# Altium footprint library Passive.PcbLib: 41 footprints (part 3 of 3)
Each footprint in its own frame and in the unit in brackets; x right, y up, seen from the top. Pads: shape width x height; smd on the part's side, far side on the other; paste and mask are expansions set on the pad; w line width, h text height; cw(c..) or ccw(c..) is an arc to the next point about the centre after c.
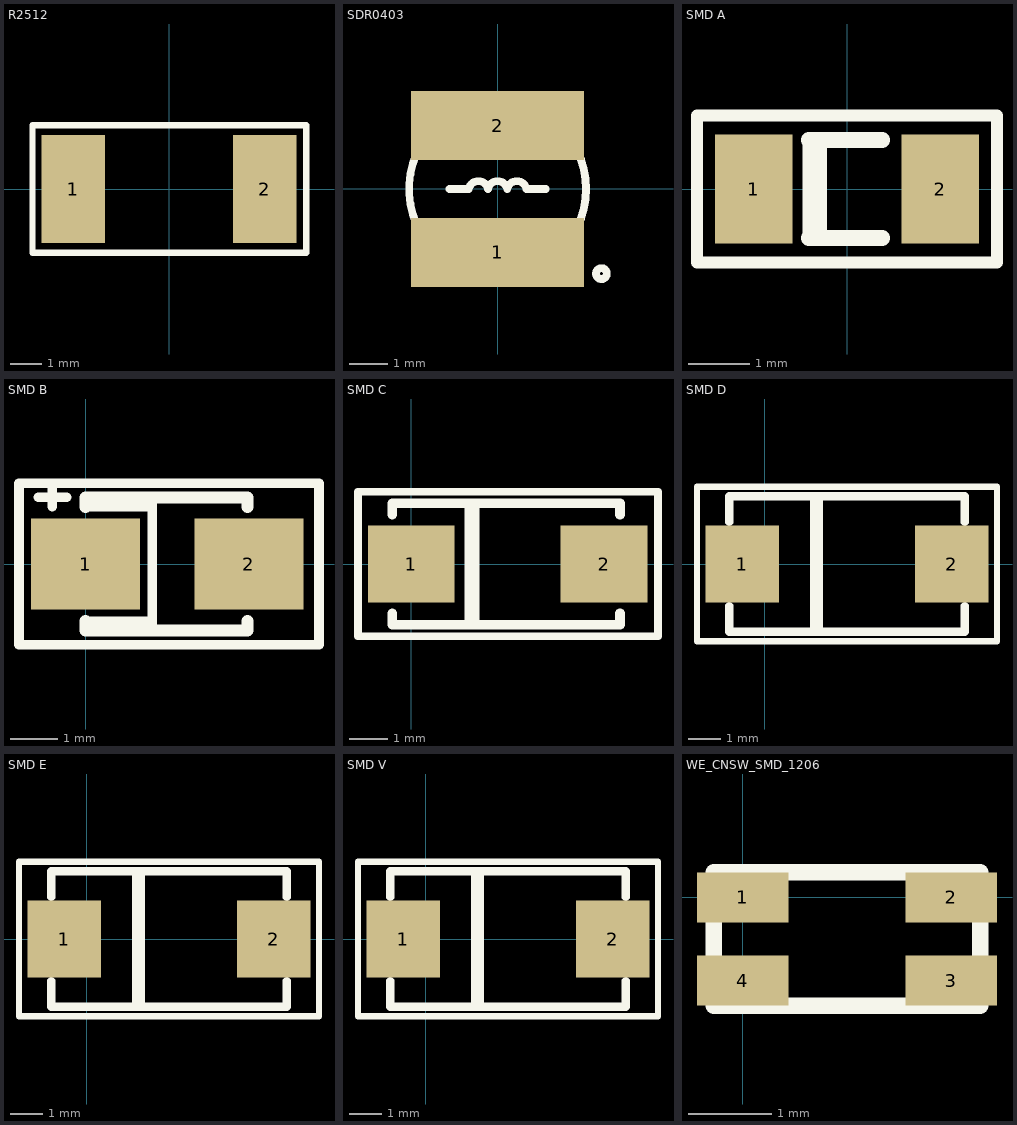
[diagram p2: the footprints below, top view; thin cyan lines are the x and y axes]

## R2512 [mm]
pads (2):
  rect 2x3.4 smd: 1(-3.025,0) 2(3,0)
Top Overlay:
  lines w0.2: -4.3,-2 -4.3,2 4.3,2 4.3,-2 -4.3,-2
3D body "User Library-Resistors2512.STEP": height 0.61, standoff -0.01, extent -3.225,-1.612 3.225,1.613

## SDR0403 [mm] "Bourns Inductor SDR0403 series"
pads (2):
  rect 4.5x1.8 smd: 1(0,-1.65) 2(0,1.65)
Top Overlay:
  circle w0.2: c2.7,-2.2 r0.141
  circle w0.2: c0,0 r2.3
  lines w0.2: -1.25,0 -0.75,0 cw(c-0.5,-0.05) -0.25,0 cw(c0,-0.05) 0.25,0 cw(c0.5,-0.05) 0.75,0 1.25,0
3D body "User Library-Inductor SDR0403 Series.STEP": height 3.25, standoff 0, extent -2.25,-2.201 2.25,2.201

## SMD A [mil] "SMD A Tantalum electrolytic capacitor"
pads (2):
  rect 50x70 smd: 1(-60.04,0) 2(59.96,0)
Top Overlay:
  lines w7.87: -24.61,-31.5 -24.61,31.5 ; -16.73,-31.5 -16.73,31.5 ; -96.46,-47.24 -96.46,47.24 96.46,47.24 96.46,-47.24 -96.46,-47.24
  lines w10: -24.61,-31.5 22.64,-31.5 ; -24.61,31.5 22.64,31.5
3D body "User Library-Tantalum Cap Case A.STEP": height 63, standoff -0.03, extent -61.02,-31.5 64.96,31.5

## SMD B [mil] "SMD B Tantalum electrolytic capacitor"
pads (2):
  rect 90x75 smd: 1(0,0) 2(135,0)
Top Overlay:
  lines w7.87: -39.37,55.12 -15.75,55.12 ; -27.56,47.24 -27.56,66.93 ; 0,-47.24 55.12,-47.24 ; 0,47.24 51.18,47.24 ; 55.12,-55.12 55.12,51.18 ; -55.12,-66.93 192.91,-66.93 192.91,66.93 -55.12,66.93 -55.12,-66.93 ; 47.24,-55.12 47.24,-55.12
  lines w10: 133.86,-47.24 133.86,-55.12 0,-55.12 0,-47.24 ; 133.86,47.24 133.86,55.12 0,55.12 0,47.24 ; 0,-47.24 0,-47.24 ; 0,47.24 0,47.24
3D body "User Library-SMD B.STEP": height 76.82, standoff 1.57, extent -3.21,-56.1 141,54.13

## SMD C [mil] "SMD C Tantalum electrolytic capacitor"
pads (2):
  rect 90x80 smd: 1(0,0) 2(200,0)
Top Overlay:
  lines w7.87: 59.06,-59.06 59.06,62.99 ; 66.93,-62.99 66.93,62.99 ; -55.12,-74.8 -55.12,74.8 255.91,74.8 255.91,-74.8 -55.12,-74.8
  lines w10: -19.68,-51.18 -19.68,-62.99 216.54,-62.99 216.54,-51.18 ; -19.68,51.18 -19.68,62.99 216.54,62.99 216.54,51.18
3D body "User Library-C_case.STEP": height 106.3, standoff 0, extent -21.65,-66.93 218.51,64.96

## SMD D [mm] "SMD D Tantalum electrolytic capacitor"
pads (2):
  rect 2.286x2.4 smd: 1(-0.7,0) 2(5.8,0)
Top Overlay:
  lines w0.2: 1.5,-2.1 1.5,2.1 ; 1.7,-2.1 1.7,2.1 ; -2.1,-2.4 7.2,-2.4 7.2,2.4 -2.1,2.4 -2.1,-2.4
  lines w0.254: -1.1,-1.3 -1.1,-2.1 6.2,-2.1 6.2,-1.3 ; -1.1,1.3 -1.1,2.1 6.2,2.1 6.2,1.3
3D body "User Library-CAP_TANT_7343-31.step": height 3.1, standoff 0, extent -1.25,-2.3 6.35,2.3

## SMD E [mm] "SMD E Tantalum electrolytic capacitor"
pads (2):
  rect 2.286x2.4 smd: 1(-0.7,0) 2(5.8,0)
Top Overlay:
  lines w0.2: 1.5,-2.1 1.5,2.1 ; 1.7,-2.1 1.7,2.1 ; -2.1,-2.4 7.2,-2.4 7.2,2.4 -2.1,2.4 -2.1,-2.4
  lines w0.254: -1.1,-1.3 -1.1,-2.1 6.2,-2.1 6.2,-1.3 ; -1.1,1.3 -1.1,2.1 6.2,2.1 6.2,1.3
3D body "User Library-AVX_E_CASE.step": height 4.2, standoff 0, extent -1.15,-2.25 6.25,2.2

## SMD V [mm] "SMD V Tantalum electrolytic capacitor"
pads (2):
  rect 2.286x2.4 smd: 1(-0.7,0) 2(5.8,0)
Top Overlay:
  lines w0.2: 1.5,-2.1 1.5,2.1 ; 1.7,-2.1 1.7,2.1 ; -2.1,-2.4 7.2,-2.4 7.2,2.4 -2.1,2.4 -2.1,-2.4
  lines w0.254: -1.1,-1.3 -1.1,-2.1 6.2,-2.1 6.2,-1.3 ; -1.1,1.3 -1.1,2.1 6.2,2.1 6.2,1.3
3D body "User Library-CaseV_7343-20.step": height 2, standoff 0, extent -1.15,-2.175 6.15,2.125

## WE_CNSW_SMD_1206 [mm] "WE-CNSW SMD 1206 Common Mode Line Filter 744232222"
pads (4):
  rect 1.1x0.6 smd: 1(0,0) 2(2.5,0) 3(2.5,-1) 4(0,-1)
Top Overlay:
  lines w0.2: -0.35,-1.3 2.85,-1.3 2.85,0.3 -0.35,0.3 -0.35,-1.3
3D body "WE-CNSW_1206_CNSW.stp": height 1.9, standoff 0, extent -0.35,-1.3 2.85,0.3